# Altium footprint library CONNECTOR.PcbLib: 181 footprints (part 7 of 12)
Each footprint in its own frame and in the unit in brackets; x right, y up, seen from the top. Pads: shape width x height; smd on the part's side, far side on the other; paste and mask are expansions set on the pad; w line width, h text height; cw(c..) or ccw(c..) is an arc to the next point about the centre after c.
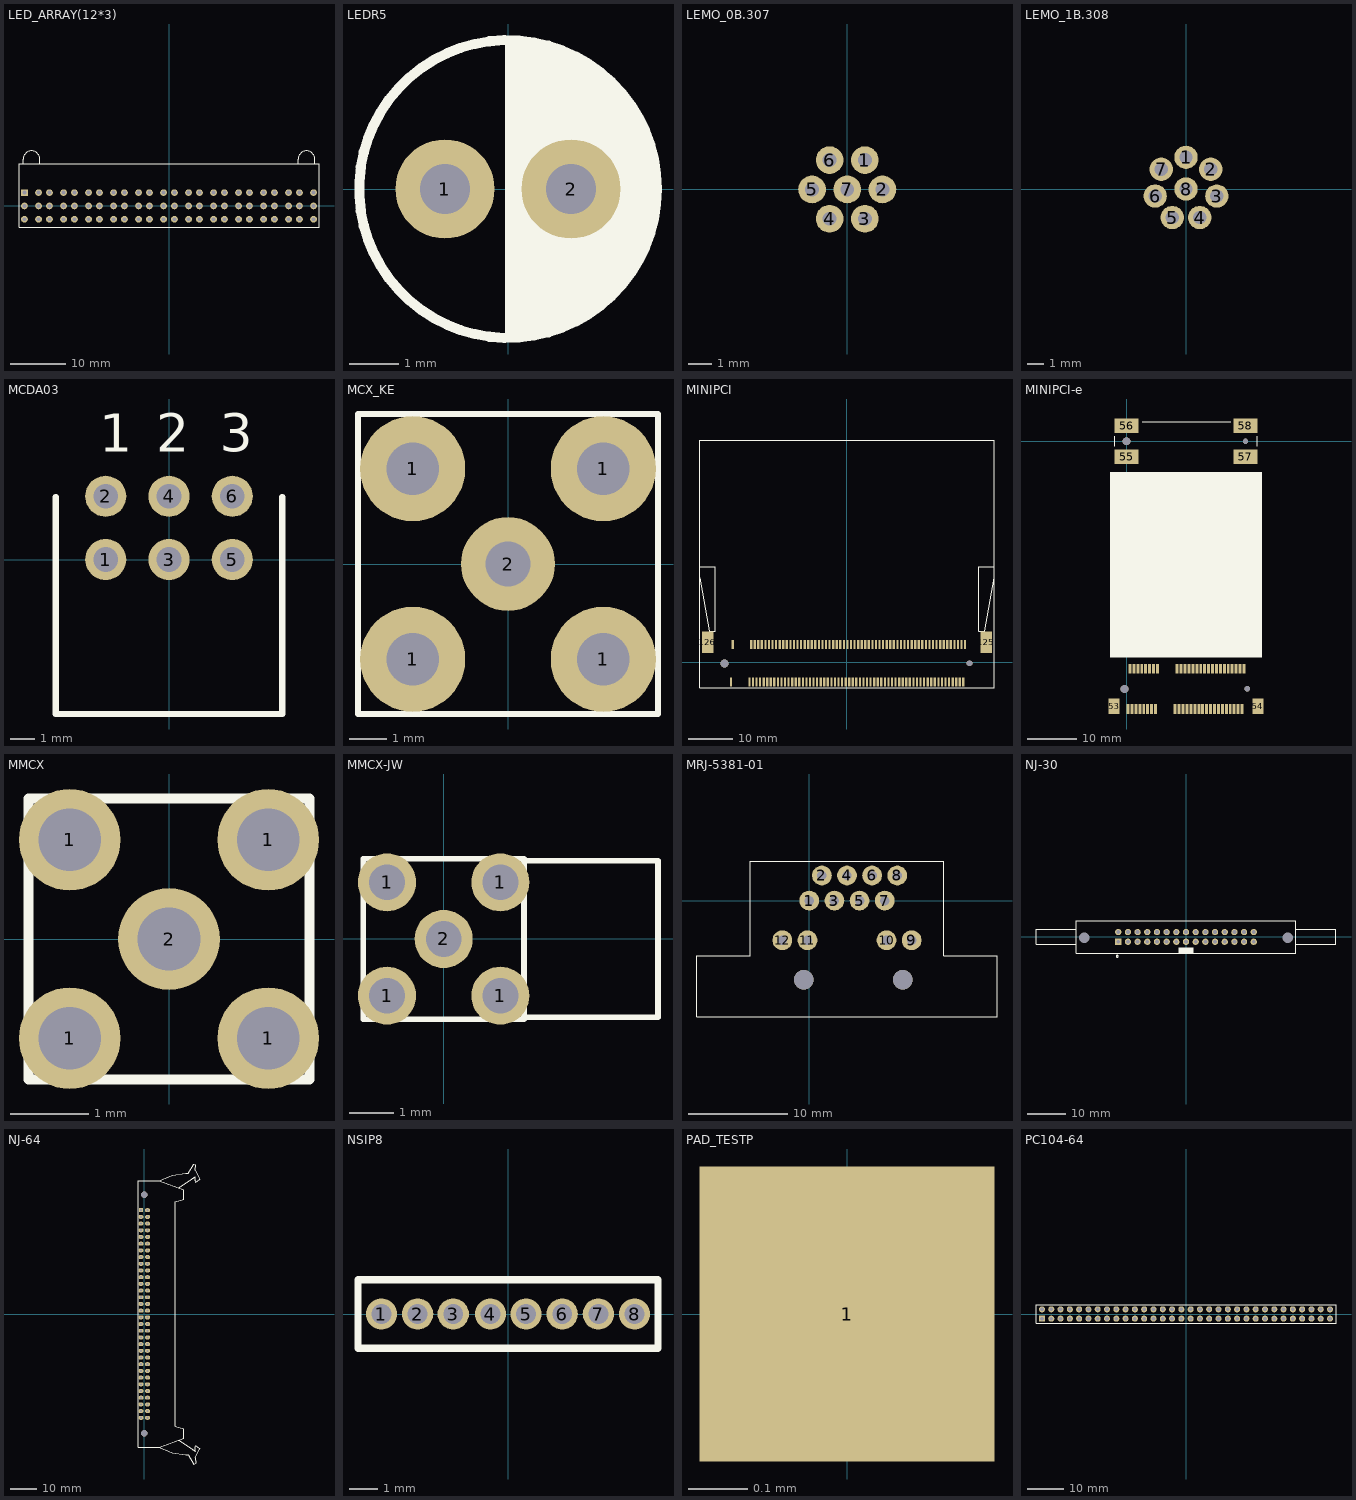
[diagram p6: the footprints below, top view; thin cyan lines are the x and y axes]

## LED_ARRAY(12*3) [mm]
height 15.25
pads (72):
  rect 1.2x1.2 hole 0.7: 1(-26.02,2.4)
  round 1.2 hole 0.7: 2(-23.48,2.4) 3(-26.02,0) 4(-23.48,0) 5(-26.02,-2.4) 6(-23.48,-2.4) 7(-21.52,2.4) 8(-18.98,2.4) 9(-21.52,0) 10(-18.98,0) 11(-21.52,-2.4) 12(-18.98,-2.4) 13(-17.02,2.4) 14(-14.48,2.4) 15(-17.02,0) 16(-14.48,0) 17(-17.02,-2.4) 18(-14.48,-2.4) 19(-12.52,2.4) 20(-9.98,2.4) 21(-12.52,0) 22(-9.98,0) 23(-12.52,-2.4) 24(-9.98,-2.4) 25(-8.02,2.4) 26(-5.48,2.4) 27(-8.02,0) 28(-5.48,0) 29(-8.02,-2.4) 30(-5.48,-2.4) 31(-3.52,2.4) 32(-0.98,2.4) 33(-3.52,0) 34(-0.98,0) 35(-3.52,-2.4) 36(-0.98,-2.4) 37(0.98,2.4) 38(3.52,2.4) 39(0.98,0) 40(3.52,0) 41(0.98,-2.4) 42(3.52,-2.4) 43(5.48,2.4) 44(8.02,2.4) 45(5.48,0) 46(8.02,0) 47(5.48,-2.4) 48(8.02,-2.4) 49(9.98,2.4) 50(12.52,2.4) 51(9.98,0) 52(12.52,0) 53(9.98,-2.4) 54(12.52,-2.4) 55(14.48,2.4) 56(17.02,2.4) 57(14.48,0) 58(17.02,0) 59(14.48,-2.4) 60(17.02,-2.4) 61(18.98,2.4) 62(21.52,2.4) 63(18.98,0) 64(21.52,0) 65(18.98,-2.4) 66(21.52,-2.4) 67(23.48,2.4) 68(26.02,2.4) 69(23.48,0) 70(26.02,0) 71(23.48,-2.4) 72(26.02,-2.4)
Top Overlay:
  lines w0.127: -26.25,7.624 -26.25,8.4 cw(c-24.75,8.4) -23.25,8.4 -23.25,7.624 ; 23.25,7.624 23.25,8.4 cw(c24.75,8.4) 26.25,8.4 26.25,7.624 ; -27,-3.8 27,-3.8 27,7.6 -27,7.6 -27,-3.8

## LEDR5 [mm] "For LED 5mm radius"
height 5
pads (2):
  round 2 hole 1: 1(-1.27,0) 2(1.27,0)
Top Overlay:
  circle w0.203: c0,0 r3
  region: 0,3.023 0,-3.023 0.864,-2.896 1.422,-2.591 1.829,-2.413 2.134,-2.083 2.413,-1.702 2.667,-1.245 2.896,-0.914 3,0 2.997,0.406 2.896,0.813 2.692,1.194 2.388,1.778 2.108,2.134 1.753,2.438 1.397,2.642 0.965,2.819 0.635,2.946
  lines w0.127: 0,-3.023 0,3.023

## LEMO_0B.307 [mm] "LEMO 0B.307 series"
height 11
pads (7):
  round 1.2 hole 0.6: 1(0.762,1.27) 2(1.524,0) 3(0.762,-1.27) 4(-0.762,-1.27) 5(-1.524,0) 6(-0.762,1.27) 7(0,0)
Bottom Overlay:
  circle w0.254: c-0.011,0.019 r6.5
  lines w0.254: -1.75,3.031 cw(c0,0) 1.75,3.031 ; -0.781,3.575 -0.781,4.432 cw(c0,0) 0.781,4.432 0.781,3.575

## LEMO_1B.308 [mm] "LEMO 1B.308 series"
height 15
pads (8):
  round 1.4 hole 0.8: 1(0,1.9) 2(1.486,1.185) 3(1.852,-0.423) 4(0.824,-1.712) 5(-0.825,-1.712) 6(-1.852,-0.423) 7(-1.485,1.185) 8(0,0)
Bottom Overlay:
  circle w0.254: c0,0 r9
  lines w0.254: -2.25,3.897 cw(c0,0) 2.25,3.897 ; -0.955,4.379 -0.955,5.416 cw(c0,0) 0.955,5.416 0.955,4.379

## MCDA03 [mm] "3位拨码开关/侧调"
height 10
pads (6):
  round 1.65 hole 1: 1(-2.54,0) 2(-2.54,2.54) 3(0,0) 4(0,2.54) 5(2.54,0) 6(2.54,2.54)
Top Overlay:
  lines w0.254: -4.54,2.508 -4.54,-1.048 -4.54,-6.2 4.54,-6.2 4.54,-0.54 4.54,2.508
  text "1" at -2.794,4.318 h1.52
  text "2" at -0.508,4.318 h1.52
  text "3" at 2.032,4.318 h1.52

## MCX_KE [mm]
pads (5):
  round 2.8 hole 1.4: 1(-2.54,-2.54) 1(-2.54,2.54) 1(2.54,-2.54) 1(2.54,2.54)
  round 2.5 hole 1.2: 2(0,0)
Top Overlay:
  lines w0.152: -4,-4 4,-4 4,4 -4,4 -4,-4

## MINIPCI [mm]
pads (126):
  rect 0.5x2 smd: 1(-26.05,-4.475) 2(-25.65,3.925) 3(-21.9,-4.475) 4(-21.5,3.925) 5(-21.1,-4.475) 6(-20.7,3.925) 7(-20.3,-4.475) 8(-19.9,3.925) 9(-19.5,-4.475) 10(-19.1,3.925) 11(-18.7,-4.475) 12(-18.3,3.925) 13(-17.9,-4.475) 14(-17.5,3.925) 15(-17.1,-4.475) 16(-16.7,3.925) 17(-16.3,-4.475) 18(-15.9,3.925) 19(-15.5,-4.475) 20(-15.1,3.925) 21(-14.7,-4.475) 22(-14.3,3.925) 23(-13.9,-4.475) 24(-13.5,3.925) 25(-13.1,-4.475) 26(-12.7,3.925) 27(-12.3,-4.475) 28(-11.9,3.925) 29(-11.5,-4.475) 30(-11.1,3.925) 31(-10.7,-4.475) 32(-10.3,3.925) 33(-9.9,-4.475) 34(-9.5,3.925) 35(-9.1,-4.475) 36(-8.7,3.925) 37(-8.3,-4.475) 38(-7.9,3.925) 39(-7.5,-4.475) 40(-7.1,3.925) 41(-6.7,-4.475) 42(-6.3,3.925) 43(-5.9,-4.475) 44(-5.5,3.925) 45(-5.1,-4.475) 46(-4.7,3.925) 47(-4.3,-4.475) 48(-3.9,3.925) 49(-3.5,-4.475) 50(-3.1,3.925) 51(-2.7,-4.475) 52(-2.3,3.925) 53(-1.9,-4.475) 54(-1.5,3.925) 55(-1.1,-4.475) 56(-0.7,3.925) 57(-0.3,-4.475) 58(0.1,3.925) 59(0.5,-4.475) 60(0.9,3.925) 61(1.3,-4.475) 62(1.7,3.925) 63(2.1,-4.475) 64(2.5,3.925) 65(2.9,-4.475) 66(3.3,3.925) 67(3.7,-4.475) 68(4.1,3.925) 69(4.5,-4.475) 70(4.9,3.925) 71(5.3,-4.475) 72(5.7,3.925) 73(6.1,-4.475) 74(6.5,3.925) 75(6.9,-4.475) 76(7.3,3.925) 77(7.7,-4.475) 78(8.1,3.925) 79(8.5,-4.475) 80(8.9,3.925) 81(9.3,-4.475) 82(9.7,3.925) 83(10.1,-4.475) 84(10.5,3.925) 85(10.9,-4.475) 86(11.3,3.925) 87(11.7,-4.475) 88(12.1,3.925) 89(12.5,-4.475) 90(12.9,3.925) 91(13.3,-4.475) 92(13.7,3.925) 93(14.1,-4.475) 94(14.5,3.925) 95(14.9,-4.475) 96(15.3,3.925) 97(15.7,-4.475) 98(16.1,3.925) 99(16.5,-4.475) 100(16.9,3.925) 101(17.3,-4.475) 102(17.7,3.925) 103(18.1,-4.475) 104(18.5,3.925) 105(18.9,-4.475) 106(19.3,3.925) 107(19.7,-4.475) 108(20.1,3.925) 109(20.5,-4.475) 110(20.9,3.925) 111(21.3,-4.475) 112(21.7,3.925) 113(22.1,-4.475) 114(22.5,3.925) 115(22.9,-4.475) 116(23.3,3.925) 117(23.7,-4.475) 118(24.1,3.925) 119(24.5,-4.475) 120(24.9,3.925) 121(25.3,-4.475) 122(25.7,3.925) 123(26.1,-4.475) 124(26.5,3.925)
  rect 2.5x4.8 smd: 125(31.25,4.475) 126(-31.25,4.475)
via 27.5,-0.275 diameter 1.3 hole 1.3
via -27.5,-0.275 diameter 1.8 hole 1.8
Top Overlay:
  lines w0.152: -33,18.964 -30.85,6.964 -29.55,6.964 -29.55,21.325 ; -33,21.375 -29.55,21.375 ; 33,18.964 30.85,6.964 29.55,6.964 29.55,21.375 33,21.375 ; -33,-5.8 33,-5.8 33,49.825 -33,49.825 -33,-5.8

## MINIPCI-e [mm] "with latch"
height 5.09
pads (58):
  rect 0.6x2 smd: 1(0.3,-54.5) 2(0.7,-46.3) 3(1.1,-54.5) 4(1.5,-46.3) 5(1.9,-54.5) 6(2.3,-46.3) 7(2.7,-54.5) 8(3.1,-46.3) 9(3.5,-54.5) 10(3.9,-46.3) 11(4.3,-54.5) 12(4.7,-46.3) 13(5.1,-54.5) 14(5.5,-46.3) 15(5.9,-54.5) 16(6.3,-46.3) 17(9.9,-54.5) 18(10.3,-46.3) 19(10.7,-54.5) 20(11.1,-46.3) 21(11.5,-54.5) 22(11.9,-46.3) 23(12.3,-54.5) 24(12.7,-46.3) 25(13.1,-54.5) 26(13.5,-46.3) 27(13.9,-54.5) 28(14.3,-46.3) 29(14.7,-54.5) 30(15.1,-46.3) 31(15.5,-54.5) 32(15.9,-46.3) 33(16.3,-54.5) 34(16.7,-46.3) 35(17.1,-54.5) 36(17.5,-46.3) 37(17.9,-54.5) 38(18.3,-46.3) 39(18.7,-54.5) 40(19.1,-46.3) 41(19.5,-54.5) 42(19.9,-46.3) 43(20.3,-54.5) 44(20.7,-46.3) 45(21.1,-54.5) 46(21.5,-46.3) 47(21.9,-54.5) 48(22.3,-46.3) 49(22.7,-54.5) 50(23.1,-46.3) 51(23.5,-54.5) 52(23.9,-46.3)
  rect 2.3x3.2 smd: 53(-2.55,-53.9) 54(26.75,-53.9)
  rect 4.8x3 smd: 55(0,-3.15) 56(0,3.15) 57(24.2,-3.15) 58(24.2,3.15)
via 24.6,-50.4 diameter 1.1 hole 1.1
via -0.4,-50.4 diameter 1.6 hole 1.6
via 0,0 diameter 1.6 hole 1.6
via 24.2,0 diameter 1.1 hole 1.1
Top Overlay:
  rectangle: -3.4,-44.05 27.6,-6.204
  lines w0.254: -2.4,-1 -2.4,1 ; 3.2,4 21.2,4 ; 26.6,-1 26.6,1

## MMCX [mm] "MMCX"
height 4.5
pads (5):
  round 1.3 hole 0.8: 1(-1.27,-1.27) 1(-1.27,1.27) 1(1.27,-1.27) 1(1.27,1.27) 2(0,0)
Top Overlay:
  lines w0.127: -1.8,-1.8 -1.8,1.8 1.8,1.8 1.8,-1.8 -1.8,-1.8

## MMCX-JW [mm] "直角MMCX针座"
height 3.8
pads (5):
  round 1.3 hole 0.8: 1(-1.27,-1.27) 1(-1.27,1.27) 1(1.27,-1.27) 1(1.27,1.27) 2(0,0)
Top Overlay:
  lines w0.127: 1.8,-1.75 4.8,-1.75 4.8,1.75 1.8,1.75 ; -1.8,-1.8 -1.8,1.8 1.8,1.8 1.8,-1.8 -1.8,-1.8

## MRJ-5381-01 [mm] "AMPHENOL网口"
height 15.4
pads (12):
  round 2 hole 0.95: 1(0,0) 2(1.27,2.54) 3(2.54,0) 4(3.81,2.54) 5(5.08,0) 6(6.35,2.54) 7(7.62,0) 8(8.89,2.54) 9(10.34,-4) 10(7.8,-4) 11(-0.18,-4) 12(-2.72,-4)
via 9.44,-8 diameter 2 hole 2
via -0.56,-8 diameter 2 hole 2
Top Overlay:
  lines w0.102: -11.34,-11.75 -11.34,-5.55 -5.96,-5.55 -5.96,4 13.58,4 13.58,-5.55 18.96,-5.55 18.96,-11.75 -11.34,-11.75

## NJ-30 [mm] "30针，垂直，牛角"
height 27.5
pads (32):
  rect 1.65x1.65 hole 1: 1(-17.78,-1.27)
  round 1.65 hole 1: 2(-17.78,1.27) 3(-15.24,-1.27) 4(-15.24,1.27) 5(-12.7,-1.27) 6(-12.7,1.27) 7(-10.16,-1.27) 8(-10.16,1.27) 9(-7.62,-1.27) 10(-7.62,1.27) 11(-5.08,-1.27) 12(-5.08,1.27) 13(-2.54,-1.27) 14(-2.54,1.27) 15(0,-1.27) 16(0,1.27) 17(2.54,-1.27) 18(2.54,1.27) 19(5.08,-1.27) 20(5.08,1.27) 21(7.62,-1.27) 22(7.62,1.27) 23(10.16,-1.27) 24(10.16,1.27) 25(12.7,-1.27) 26(12.7,1.27) 27(15.24,-1.27) 28(15.24,1.27) 29(17.78,-1.27) 30(17.78,1.27)
  round 1.65 hole 2.8: MH1(-26.67,-0.25) MH2(26.67,-0.25)
Top Overlay:
  circle w0.254: c-18.034,-5.08 r0.254
  rectangle: -2.032,-4.255 2.032,-2.794
  lines w0.102: -28.829,-1.968 -39.37,-1.968 -39.37,1.968 -28.829,1.968 ; 28.829,-1.956 39.37,-1.956 39.37,1.981 28.829,1.981 ; -28.829,-4.255 -28.829,4.255 28.829,4.255 28.829,-4.255 -28.829,-4.255

## NJ-64 [mm] "2.54mm,牛角64位"
height 8
pads (64):
  rect 1.5x1.5 hole 0.8: 1(-1.27,39.37)
  oval 2x1.5 hole 0.8: 2(-1.27,36.83) 3(-1.27,34.29) 4(-1.27,31.75) 5(-1.27,29.21) 6(-1.27,26.67) 7(-1.27,24.13) 8(-1.27,21.59) 9(-1.27,19.05) 10(-1.27,16.51) 11(-1.27,13.97) 12(-1.27,11.43) 13(-1.27,8.89) 14(-1.27,6.35) 15(-1.27,3.81) 16(-1.27,1.27) 17(-1.27,-1.27) 18(-1.27,-3.81) 19(-1.27,-6.35) 20(-1.27,-8.89) 21(-1.27,-11.43) 22(-1.27,-13.97) 23(-1.27,-16.51) 24(-1.27,-19.05) 25(-1.27,-21.59) 26(-1.27,-24.13) 27(-1.27,-26.67) 28(-1.27,-29.21) 29(-1.27,-31.75) 30(-1.27,-34.29) 31(-1.27,-36.83) 32(-1.27,-39.37) 33(1.27,-39.37) 34(1.27,-36.83) 35(1.27,-34.29) 36(1.27,-31.75) 37(1.27,-29.21) 38(1.27,-26.67) 39(1.27,-24.13) 40(1.27,-21.59) 41(1.27,-19.05) 42(1.27,-16.51) 43(1.27,-13.97) 44(1.27,-11.43) 45(1.27,-8.89) 46(1.27,-6.35) 47(1.27,-3.81) 48(1.27,-1.27) 49(1.27,1.27) 50(1.27,3.81) 51(1.27,6.35) 52(1.27,8.89) 53(1.27,11.43) 54(1.27,13.97) 55(1.27,16.51) 56(1.27,19.05) 57(1.27,21.59) 58(1.27,24.13) 59(1.27,26.67) 60(1.27,29.21) 61(1.27,31.75) 62(1.27,34.29) 63(1.27,36.83) 64(1.27,39.37)
via 0,45.25 diameter 2.5 hole 2.5
via 0,-45.25 diameter 2.5 hole 2.5
Top Overlay:
  lines w0.254: 13.033,-47.823 18.542,-51.562 ; 13.033,47.823 18.542,51.562 ; 18.343,-51.427 19.304,-52.07 19.304,-50.546 19.533,-49.893 20.04,-50.272 21.082,-51.054 19.304,-54.61 19.558,-56.642 18.796,-56.896 16.764,-53.34 15.748,-53.34 10.668,-52.578 5.75,-50.5 ; 18.343,51.427 19.304,52.07 19.304,50.546 19.533,49.893 20.04,50.272 21.082,51.054 19.304,54.61 19.558,56.642 18.796,56.896 16.764,53.34 15.748,53.34 10.668,52.578 5.75,50.5 ; 5.75,-50.5 -2.3,-50.5 -2.3,50.5 5.75,50.5 ; 5.75,-50.5 15,-47.1 15,-43.5 11.73,-42.5 11.73,42.5 15,43.5 15,47.1 5.75,50.5

## NSIP8 [mm] "Pitch 1.27mm"
height 2
pads (8):
  round 1.1 hole 0.7: 1(-4.445,0) 2(-3.175,0) 3(-1.923,0) 4(-0.617,0) 5(0.635,0) 6(1.905,0) 7(3.175,0) 8(4.445,0)
Top Overlay:
  lines w0.254: -5.27,-1.2 5.27,-1.2 5.27,1.2 -5.27,1.2 -5.27,-1.2

## PAD_TESTP [mm]
pads (1):
  rect 0.5x0.5 smd: 1(0,0)

## PC104-64 [mm]
height 11
pads (64):
  rect 1.65x1.65 hole 1: 1(-39.37,-1.27)
  round 1.65 hole 1: 2(-39.37,1.27) 3(-36.83,-1.27) 4(-36.83,1.27) 5(-34.29,-1.27) 6(-34.29,1.27) 7(-31.75,-1.27) 8(-31.75,1.27) 9(-29.21,-1.27) 10(-29.21,1.27) 11(-26.67,-1.27) 12(-26.67,1.27) 13(-24.13,-1.27) 14(-24.13,1.27) 15(-21.59,-1.27) 16(-21.59,1.27) 17(-19.05,-1.27) 18(-19.05,1.27) 19(-16.51,-1.27) 20(-16.51,1.27) 21(-13.97,-1.27) 22(-13.97,1.27) 23(-11.43,-1.27) 24(-11.43,1.27) 25(-8.89,-1.27) 26(-8.89,1.27) 27(-6.35,-1.27) 28(-6.35,1.27) 29(-3.81,-1.27) 30(-3.81,1.27) 31(-1.27,-1.27) 32(-1.27,1.27) 33(1.27,-1.27) 34(1.27,1.27) 35(3.81,-1.27) 36(3.81,1.27) 37(6.35,-1.27) 38(6.35,1.27) 39(8.89,-1.27) 40(8.89,1.27) 41(11.43,-1.27) 42(11.43,1.27) 43(13.97,-1.27) 44(13.97,1.27) 45(16.51,-1.27) 46(16.51,1.27) 47(19.05,-1.27) 48(19.05,1.27) 49(21.59,-1.27) 50(21.59,1.27) 51(24.13,-1.27) 52(24.13,1.27) 53(26.67,-1.27) 54(26.67,1.27) 55(29.21,-1.27) 56(29.21,1.27) 57(31.75,-1.27) 58(31.75,1.27) 59(34.29,-1.27) 60(34.29,1.27) 61(36.83,-1.27) 62(36.83,1.27) 63(39.37,-1.27) 64(39.37,1.27)
Top Overlay:
  lines w0.254: -41,-2.5 41,-2.5 41,2.5 -41,2.5 -41,-2.5